# EAGLE library part BQ500210 (library bq500211_bq500210_bq51013a)
Qi Compliant Wireless Power Transmitter Manager
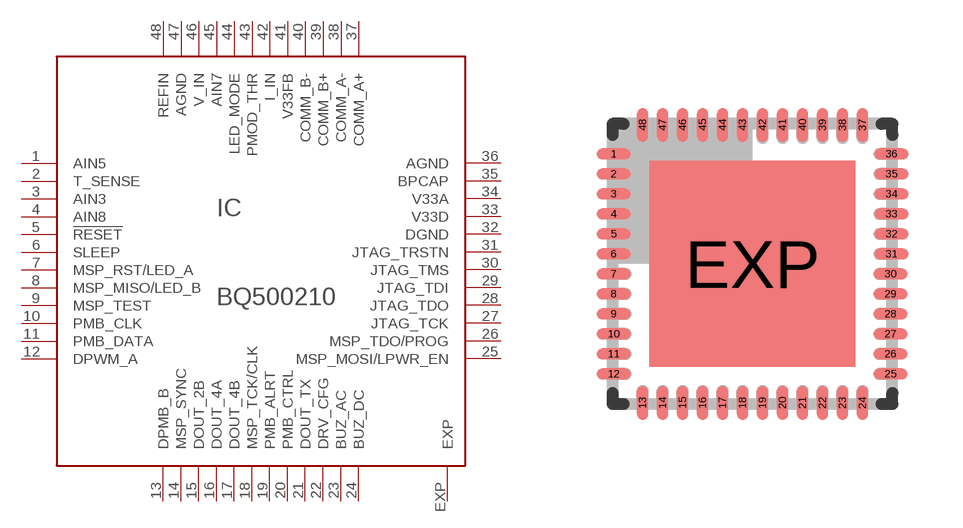
[diagram p0: symbol with the pads of RGZ_S-PVQFN-N48; footprint RGZ_S-PVQFN-N48]

Designator prefix IC

## BQ500210  [RGZ_S-PVQFN-N48]
1  AIN5
2  T_SENSE
3  AIN3
4  AIN8
5  !RESET
6  SLEEP
7  MSP_RST/LED_A
8  MSP_MISO/LED_B
9  MSP_TEST
10  PMB_CLK
11  PMB_DATA
12  DPWM_A
13  DPMB_B
14  MSP_SYNC
15  DOUT_2B
16  DOUT_4A
17  DOUT_4B
18  MSP_TCK/CLK
19  PMB_ALRT
20  PMB_CTRL
21  DOUT_TX
22  DRV_CFG
23  BUZ_AC
24  BUZ_DC
25  MSP_MOSI/LPWR_EN
26  MSP_TDO/PROG
27  JTAG_TCK
28  JTAG_TDO
29  JTAG_TDI
30  JTAG_TMS
31  JTAG_TRSTN
32  DGND
33  V33D
34  V33A
35  BPCAP
36  AGND
37  COMM_A+
38  COMM_A-
39  COMM_B+
40  COMM_B-
41  V33FB
42  I_IN
43  PMOD_THR
44  LED_MODE
45  AIN7
46  V_IN
47  AGND
48  REFIN
EXP  EXP

## Footprint RGZ_S-PVQFN-N48 (pad centres in mm)
RGZ (S-PVQFN-N48)
smd 0.85 x 0.28: 1 -3.475,2.75; 2 -3.475,2.25; 3 -3.475,1.75; 4 -3.475,1.25; 5 -3.475,0.75; 6 -3.475,0.25; 7 -3.475,-0.25; 8 -3.475,-0.75; 9 -3.475,-1.25; 10 -3.475,-1.75; 11 -3.475,-2.25; 12 -3.475,-2.75; 25 3.45,-2.75; 26 3.45,-2.25; 27 3.45,-1.75; 28 3.45,-1.25; 29 3.45,-0.75; 30 3.45,-0.25; 31 3.475,0.25; 32 3.475,0.75; 33 3.475,1.25; 34 3.475,1.75; 35 3.475,2.25; 36 3.475,2.75
smd 0.28 x 0.85: 13 -2.75,-3.475; 14 -2.25,-3.475; 15 -1.75,-3.475; 16 -1.25,-3.475; 17 -0.75,-3.475; 18 -0.25,-3.475; 19 0.25,-3.475; 20 0.75,-3.475; 21 1.25,-3.475; 22 1.75,-3.475; 23 2.25,-3.475; 24 2.75,-3.475; 37 2.75,3.475; 38 2.25,3.475; 39 1.75,3.475; 40 1.25,3.475; 41 0.75,3.475; 42 0.25,3.475; 43 -0.25,3.475; 44 -0.75,3.475; 45 -1.25,3.475; 46 -1.75,3.475; 47 -2.25,3.475; 48 -2.75,3.475
smd 5.15 x 5.15: EXP 0,0